# EAGLE library part DRV8833_CARRIER (library robot_components)
DRV8833 Motor Driver (on carrier) ---------------------------------------------- Intended as a swappable motor driver module for the EECE Instructional Robotics Platform.
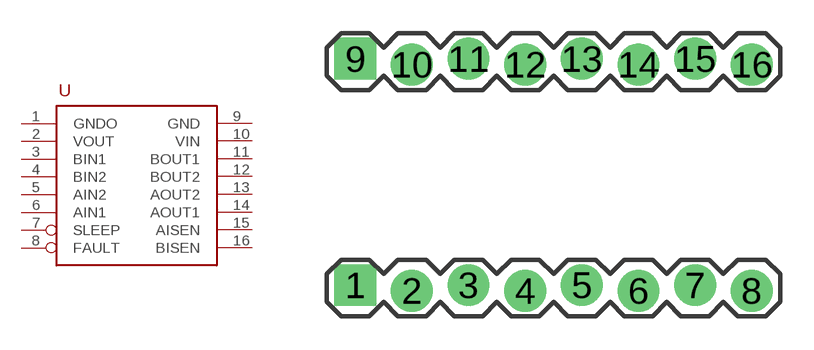
[diagram p0: symbol with the pads of DRV8833_CARRIER_DIP; footprint DRV8833_CARRIER_DIP]

Designator prefix -

## DRV8833_CARRIER  [DRV8833_CARRIER_DIP]
1  GNDO  pwr
2  VOUT
3  BIN1
4  BIN2
5  AIN2
6  AIN1
7  SLEEP
8  FAULT
9  GND  pwr
10  VIN
11  BOUT1
12  BOUT2
13  AOUT2
14  AOUT1
15  AISEN
16  BISEN

## Footprint DRV8833_CARRIER_DIP (pad centres in mm)
NOT VERIFIED FOOTPRINT: TEST 1/1 Footprint for a pair of headers, intended for a DRV8833 module from Ponoko.
drill 1.016 pad 1.88 square: 1 -7.62,0.127; 9 -7.62,10.287
drill 1.016 pad 1.88: 2 -5.08,-0.127; 3 -2.54,0.127; 4 0,-0.127; 5 2.54,0.127; 6 5.08,-0.127; 7 7.62,0.127; 8 10.16,-0.127; 10 -5.08,10.033; 11 -2.54,10.287; 12 0,10.033; 13 2.54,10.287; 14 5.08,10.033; 15 7.62,10.287; 16 10.16,10.033